# EAGLE library part ELMA_E37 (library RadioStack_v2)
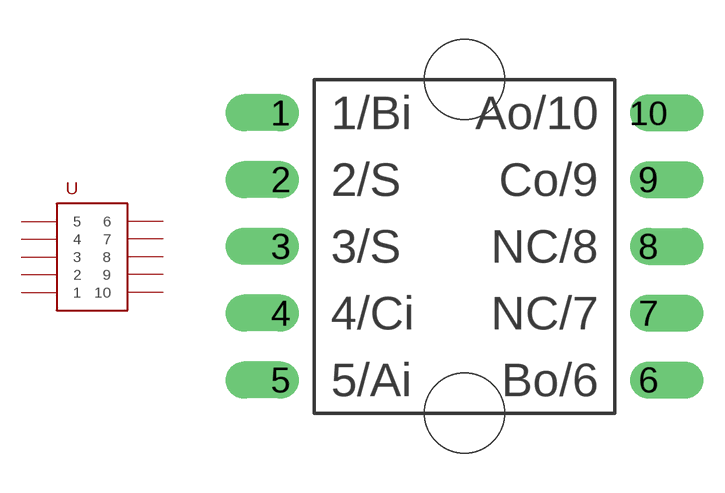
[diagram p2: symbol with the pads of ELMA_E37; footprint ELMA_E37]

Designator prefix -

## ELMA_E37  [ELMA_E37]
1  1
2  2
3  3
4  4
5  5
6  6
7  7
8  8
9  9
10  10

## Footprint ELMA_E37 (pad centres in mm)
drill 0.889 pad 1.27 offset: 1 0,0; 2 0,-2.54; 3 0,-5.08; 4 0,-7.62; 5 0,-10.16; 6 13.97,-10.16; 7 13.97,-7.62; 8 13.97,-5.08; 9 13.97,-2.54; 10 13.97,0
hole 3.048 at 6.985,1.27
hole 3.048 at 6.985,-11.43